# Altium schematic symbol library Connectors_FPC.SchLib: 8 symbols
Pins are listed as number, name and electrical type; pins without a type are passive.

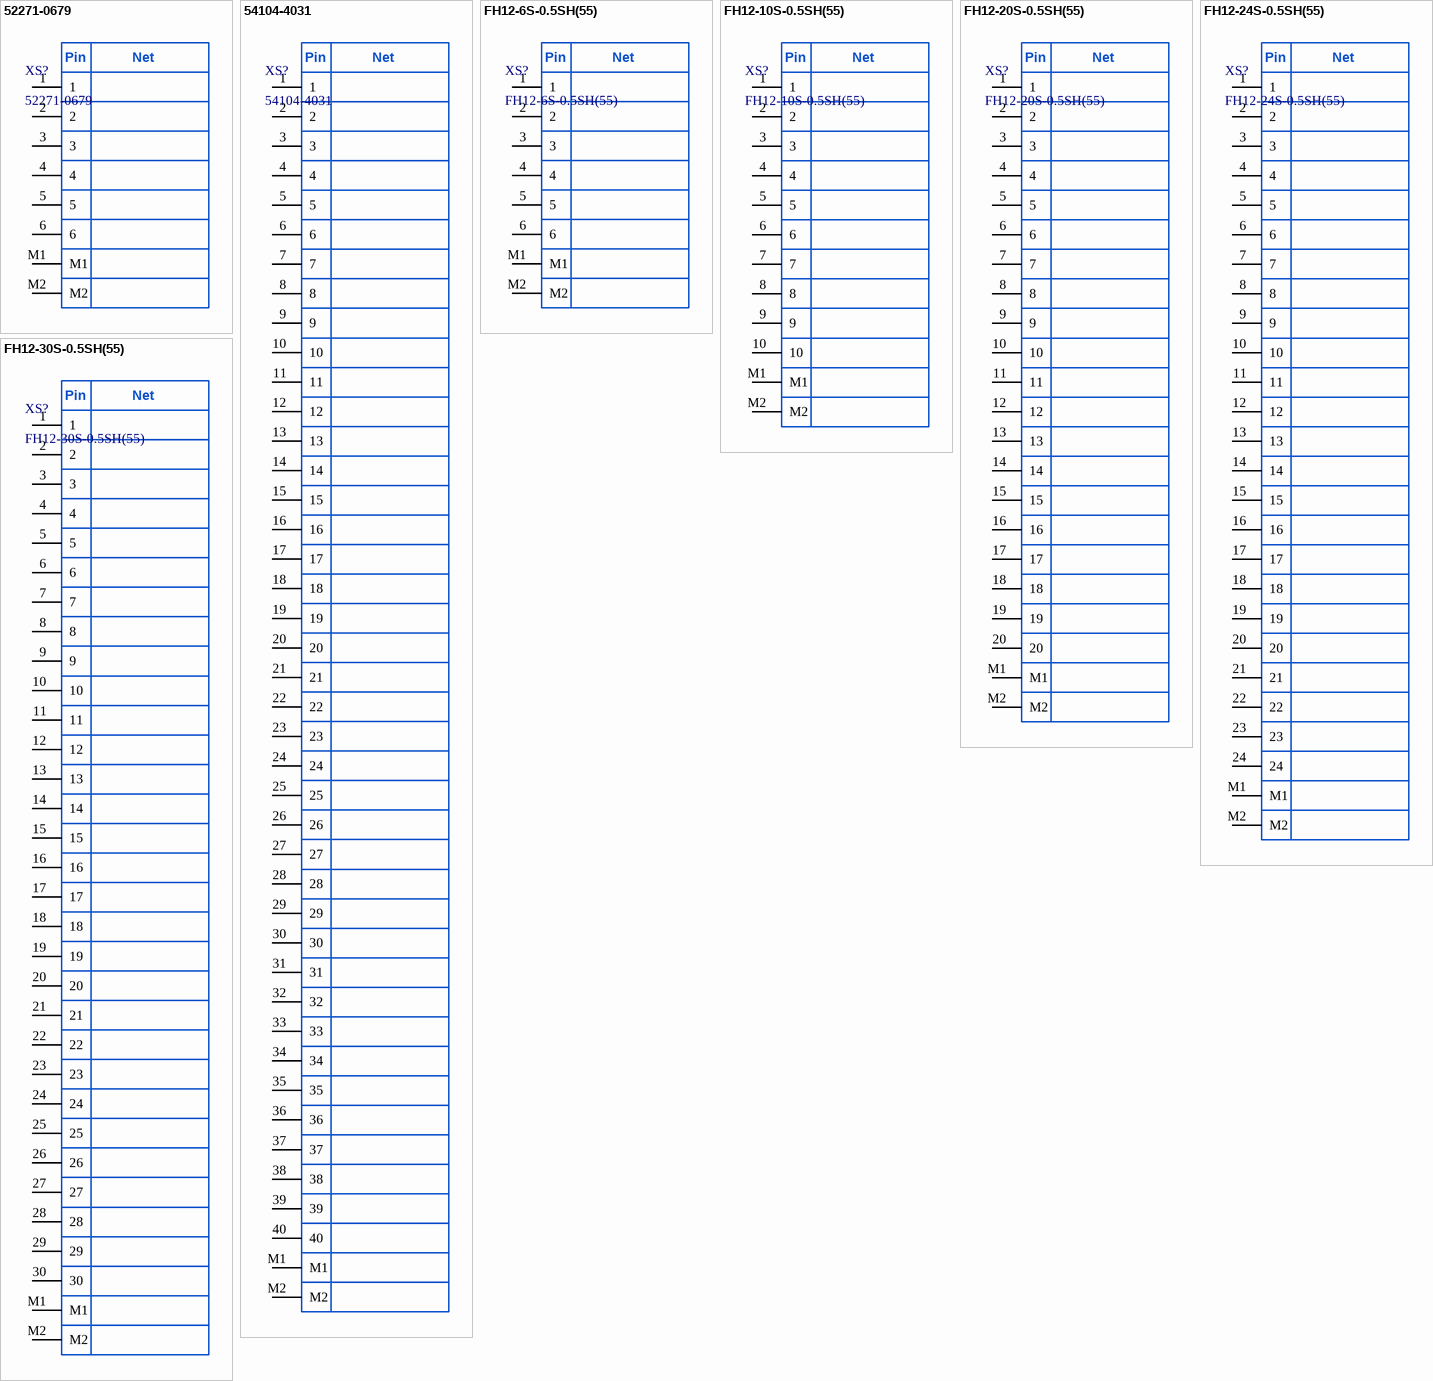
[diagram p0: symbols 52271-0679 to FH12-30S-0.5SH(55)]

## 52271-0679
designator XS?
FFC/FPC Connector, 1.00mm Pitch, 3.00mm Height, 6 Circuits, Tin-Bismuth Plating; Manufacturer: Molex; AltManufacturer1: KLS; Alternative1: L-KLS1-1240Q-2.5-06-T-L-R; ItemSubType: FPC R/A; PartNumber: 52271-0679; ItemType: Connector; Mounting: SMD
footprint 52271-0679 (FFC/FPC Connector, 1.00mm Pitch, Slider Series, Right-Angle, Bottom Contact, 3.00mm Height, 6 Circuits, Tin-Bismuth Plating)
pins: 1, 2, 3, 4, 5, 6, M1, M2
text: Pin; Net

## 54104-4031
designator XS?
FFC/FPC Connector, 0.50mm Pitch, Slider Series, 2.00mm Height, 40 Circuits, Gold Plating; Manufacturer: Molex; AltManufacturer1: Connfly; Alternative1: DS1020-09-40VB8B-R; ItemSubType: FPC R/A; PartNumber: 54104-4031; ItemType: Connector; Mounting: SMD
footprint 54104-4031 (FFC/FPC Connector, 0.50mm Pitch, Slider Series Right-Angle, Top Contact, 2.00mm Height, 40 Circuits, Gold Plating)
pins: 1, 2, 3, 4, 5, 6, 7, 8, 9, 10, 11, 12, 13, 14, 15, 16, 17, 18, 19, 20, 21, 22, 23, 24, 25, 26, 27, 28, 29, 30, 31, 32, 33, 34, 35, 36, 37, 38, 39, 40, M1, M2
text: Pin; Net

## FH12-6S-0.5SH(55)
designator XS?
0.5MM 6P FFC SMT R/A BOT CONT; Manufacturer: Hirose; ItemType: Connector; ItemSubType: FFC R/A; PartNumber: FH12-6S-0.5SH(55); Mounting: SMD
footprint FH12-6S-0.5SH (CONN FPC/FFC 6POS 0.5MM ZIF Contact Bottom)
pins: 1, 2, 3, 4, 5, 6, M1, M2
text: Pin; Net

## FH12-10S-0.5SH(55)
designator XS?
0.5MM 10P FFC SMT R/A BOT CONT; Manufacturer: Hirose; ItemType: Connector; ItemSubType: FFC R/A; PartNumber: FH12-10S-0.5SH(55); Mounting: SMD
footprint FH12-10S-0.5SH (CONN FPC/FFC 10POS .5MM ZIF Contact Bottom)
pins: 1, 2, 3, 4, 5, 6, 7, 8, 9, 10, M1, M2
text: Pin; Net

## FH12-20S-0.5SH(55)
designator XS?
0.5MM 20P FFC SMT R/A BOT CONT; Manufacturer: Hirose; ItemType: Connector; ItemSubType: FFC R/A; PartNumber: FH12-20S-0.5SH(55); Mounting: SMD
footprint FH12-20S-0.5SH (CONN FPC/FFC 20POS .5MM ZIF Contact Bottom)
pins: 1, 2, 3, 4, 5, 6, 7, 8, 9, 10, 11, 12, 13, 14, 15, 16, 17, 18, 19, 20, M1, M2
text: Pin; Net

## FH12-24S-0.5SH(55)
designator XS?
0.5MM 24P FFC SMT R/A BOT CONT; Manufacturer: Hirose; ItemType: Connector; ItemSubType: FFC R/A; PartNumber: FH12-24S-0.5SH(55); Mounting: SMD
footprint FH12-24S-0.5SH (CONN FPC/FFC 24POS .5MM ZIF Contact Bottom)
pins: 1, 2, 3, 4, 5, 6, 7, 8, 9, 10, 11, 12, 13, 14, 15, 16, 17, 18, 19, 20, 21, 22, 23, 24, M1, M2
text: Pin; Net

## FH12-30S-0.5SH(55)
designator XS?
0.5MM 30P FFC SMT R/A BOT CONT; Manufacturer: Hirose; ItemType: Connector; ItemSubType: FFC R/A; PartNumber: FH12-30S-0.5SH(55); Mounting: SMD
footprint FH12-30S-0.5SH (CONN FPC/FFC 30POS .5MM)
pins: 1, 2, 3, 4, 5, 6, 7, 8, 9, 10, 11, 12, 13, 14, 15, 16, 17, 18, 19, 20, 21, 22, 23, 24, 25, 26, 27, 28, 29, 30, M1, M2
text: Pin; Net

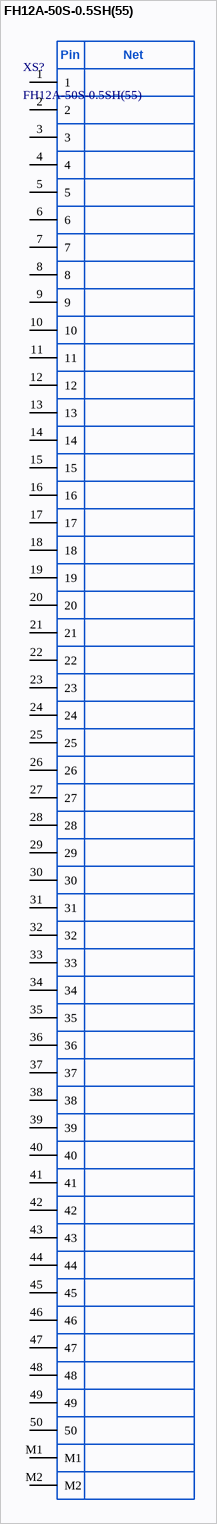
[diagram p1: symbol FH12A-50S-0.5SH(55)]

## FH12A-50S-0.5SH(55)
designator XS?
0.5MM 50P FFC SMT R/A TOP CONT; Manufacturer: Hirose; ItemType: Connector; ItemSubType: FFC R/A; PartNumber: FH12A-50S-0.5SH(55); Mounting: SMD
footprint FH12A-50S-0.5SH (CONN FPC/FFC 50POS .5MM, ZIF Contact Top)
pins: 1, 2, 3, 4, 5, 6, 7, 8, 9, 10, 11, 12, 13, 14, 15, 16, 17, 18, 19, 20, 21, 22, 23, 24, 25, 26, 27, 28, 29, 30, 31, 32, 33, 34, 35, 36, 37, 38, 39, 40, 41, 42, 43, 44, 45, 46, 47, 48, 49, 50, M1, M2
text: Pin; Net